# Altium schematic symbol library RES 2m 1W.Schlib: 1 symbol
Pins are listed as number, name and electrical type; pins without a type are passive.

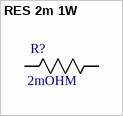
[diagram p0: symbol RES 2m 1W]

## RES 2m 1W
designator R?, comment 2mOHM
RES SMD 2m OHM 1% 1W 2512; Package: 1206; Power (Watts): 1W; Tolerance: 1%
footprint 2512 (Chip Resistor, 2-Leads, Body 6.35x3.10mm, IPC Low Density)
pins: 1 R1, 2 R2